# EAGLE library part LT3650 (library kwoo)
High-voltage, 2-Amp, monolithic Li-Ion battery charger
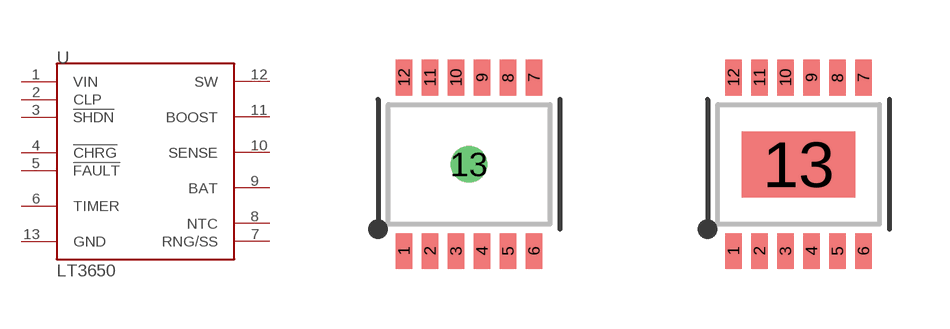
[diagram p51: symbol with the pads of 12-MSOP; footprints 12-MSOP, 12-MSOP-2LAYER]

Designator prefix U

## LT3650  [12-MSOP]
1  VIN
2  CLP
3  !SHDN
4  !CHRG
5  !FAULT
6  TIMER
7  RNG/SS
8  NTC
9  BAT
10  SENSE
11  BOOST
12  SW
13  GND

## LT36502LAYER  [12-MSOP-2LAYER]
Pads as for 12-MSOP

## Footprint 12-MSOP (pad centres in mm)
12-MSOP w/ exposed pad. From LT3560 datasheet
smd 0.42 x 0.889: 1 -1.625,-2.17; 2 -0.975,-2.17; 3 -0.325,-2.17; 4 0.325,-2.17; 5 0.975,-2.17; 6 1.625,-2.17; 7 1.625,2.17; 8 0.975,2.17; 9 0.325,2.17; 10 -0.325,2.17; 11 -0.975,2.17; 12 -1.625,2.17
drill 0.4 round: 13 0,0

## Footprint 12-MSOP-2LAYER (pad centres in mm)
Same as 12-MSOP but without via under center ground pad. This will allow it to be used on a 2-layer board
smd 0.42 x 0.889: 1 -1.625,-2.17; 2 -0.975,-2.17; 3 -0.325,-2.17; 4 0.325,-2.17; 5 0.975,-2.17; 6 1.625,-2.17; 7 1.625,2.17; 8 0.975,2.17; 9 0.325,2.17; 10 -0.325,2.17; 11 -0.975,2.17; 12 -1.625,2.17
smd 2.845 x 1.651: 13 0,0